# EAGLE library part NUCLEO-F303K8 (library NUCLEO-F303K8)
STM32 Nucleo-32 development board Source: Datasheet <http://uk.rs-online.com/web/p/products/9092862>
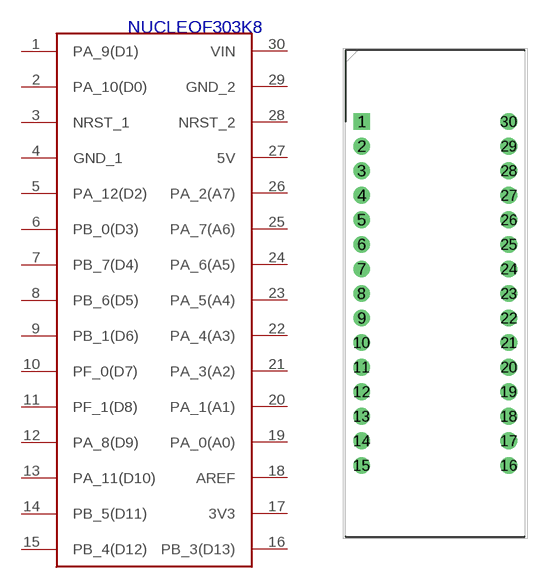
[diagram p0: symbol with the pads of DIPS1524W66P254L5029H1500Q30N; footprint DIPS1524W66P254L5029H1500Q30N]

Designator prefix IC

## NUCLEO-F303K8 (DESCRIPTION: STM32 Nucleo-32 development board; HEIGHT: 15mm; MANUFACTURER_NAME: STMicroelectronics; MANUFACTURER_PART_NUMBER: NUCLEO-F303K8; RS_PART_NUMBER: 9092862)  [DIPS1524W66P254L5029H1500Q30N]
1  PA_9(D1)
2  PA_10(D0)
3  NRST_1
4  GND_1  pwr
5  PA_12(D2)
6  PB_0(D3)
7  PB_7(D4)
8  PB_6(D5)
9  PB_1(D6)
10  PF_0(D7)
11  PF_1(D8)
12  PA_8(D9)
13  PA_11(D10)
14  PB_5(D11)
15  PB_4(D12)
16  PB_3(D13)
17  3V3  pwr
18  AREF
19  PA_0(A0)
20  PA_1(A1)
21  PA_3(A2)
22  PA_4(A3)
23  PA_5(A4)
24  PA_6(A5)
25  PA_7(A6)
26  PA_2(A7)
27  5V  pwr
28  NRST_2
29  GND_2  pwr
30  VIN  pwr

## Footprint DIPS1524W66P254L5029H1500Q30N (pad centres in mm)
arduino-nano
drill 1.15 pad 1.725 square: 1 0,0
drill 1.15 pad 1.725: 2 0,-2.54; 3 0,-5.08; 4 0,-7.62; 5 0,-10.16; 6 0,-12.7; 7 0,-15.24; 8 0,-17.78; 9 0,-20.32; 10 0,-22.86; 11 0,-25.4; 12 0,-27.94; 13 0,-30.48; 14 0,-33.02; 15 0,-35.56; 16 15.24,-35.56; 17 15.24,-33.02; 18 15.24,-30.48; 19 15.24,-27.94; 20 15.24,-25.4; 21 15.24,-22.86; 22 15.24,-20.32; 23 15.24,-17.78; 24 15.24,-15.24; 25 15.24,-12.7; 26 15.24,-10.16; 27 15.24,-7.62; 28 15.24,-5.08; 29 15.24,-2.54; 30 15.24,0